# Altium schematic symbol library PVN012.SchLib: 1 symbol
Pins are listed as number, name and electrical type; pins without a type are passive.

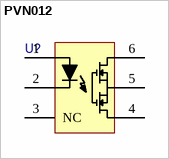
[diagram p0: symbol PVN012]

## PVN012
designator U?  (value not drawn)
pins: 1 *, 2 *, 3 NC, 4 *, 5 *, 6 *